# EAGLE library part ESP12E (library esp8266modules)
ESP12E Module
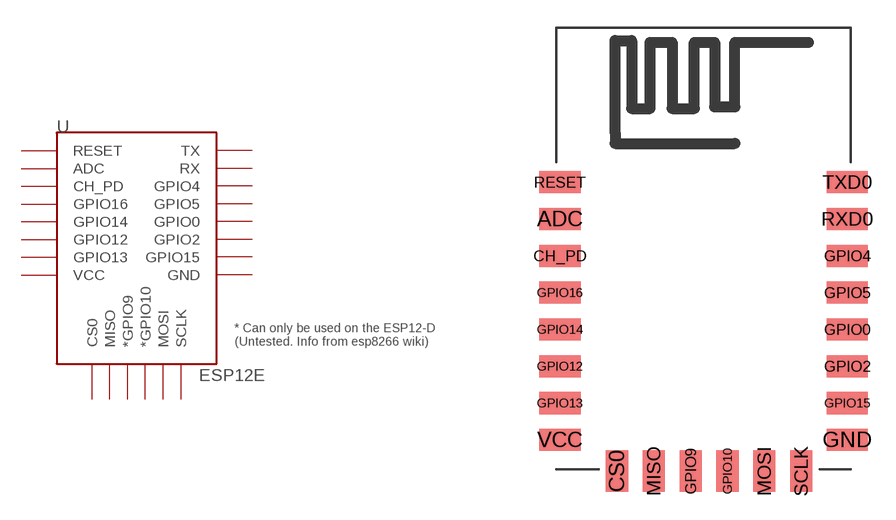
[diagram p9: symbol with the pads of ESP12E-SMD; footprint ESP12E-SMD]

Designator prefix U

## ESP12ESMD  [ESP12E-SMD]
ADC  ADC
CH_PD  CH_PD
CS0  CS0
GND  GND
GPIO0  GPIO0
GPIO2  GPIO2
GPIO4  GPIO4
GPIO5  GPIO5
GPIO9  *GPIO9
GPIO10  *GPIO10
GPIO12  GPIO12
GPIO13  GPIO13
GPIO14  GPIO14
GPIO15  GPIO15
GPIO16  GPIO16
MISO  MISO
MOSI  MOSI
RESET  RESET
RXD0  RX
SCLK  SCLK
TXD0  TX
VCC  VCC

## Footprint ESP12E-SMD (pad centres in mm)
ESP8266 Module 12E
smd 2.25 x 1.2: ADC -7.9,3.8; CH_PD -7.9,1.8; GND 7.7,-8.2; GPIO0 7.7,-2.2; GPIO2 7.7,-4.2; GPIO4 7.7,1.8; GPIO5 7.7,-0.2; GPIO12 -7.9,-4.2; GPIO13 -7.9,-6.2; GPIO14 -7.9,-2.2; GPIO15 7.7,-6.2; GPIO16 -7.9,-0.2; RESET -7.9,5.8; RXD0 7.7,3.8; TXD0 7.7,5.8; VCC -7.9,-8.2
smd 1.2 x 2.25: CS0 -4.8,-9.9; GPIO9 -0.8,-9.9; GPIO10 1.2,-9.9; MISO -2.8,-9.9; MOSI 3.2,-9.9; SCLK 5.2,-9.9